# Altium schematic symbol library CRCW12061R00FNEA.SchLib: 2 symbols
Pins are listed as number, name and electrical type; pins without a type are passive.

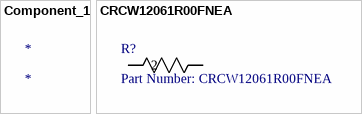
[diagram p0: symbols Component_1 to CRCW12061R00FNEA]

## Component_1
designator *

## CRCW12061R00FNEA
designator R?, comment Part Number: CRCW12061R00FNEA
No Description Available; Vendor: Vishay; Built_By: EMA_UL_Team; Manufacturer_Part_Number: CRCW12061R00FNEA; Copyright: Copyright (C) 2018 Accelerated Designs. All rights reserved; RefDes: RefDes; Type: DEV; Value: Value
footprint RC1206N
pins: 1, 2